# Altium schematic symbol library MAX485CSA.SchLib: 1 symbol
Pins are listed as number, name and electrical type; pins without a type are passive.

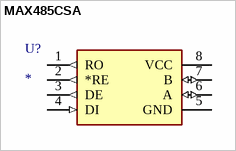
[diagram p0: symbol MAX485CSA]

## MAX485CSA
designator U?
Low-Power, Slew-Rate-Limited RS-485/RS-422 Transceivers; MF: Analog Devices; MP: MAX485CSA+; SnapEDA_Link: https://www.snapeda.com/parts/MAX485CSA+/Analog+Devices/view-part/?ref=snap; Package: SOIC-8 Maxim; Value: *; Check_prices: https://www.snapeda.com/parts/MAX485CSA+/Analog+Devices/view-part/?ref=eda
footprint 21-0041B_8
pins: 1 RO (out), 2 *RE (out), 3 DE (out), 4 DI (in), 5 GND (power), 6 A (io), 7 B (io), 8 VCC (power)